# Altium footprint library ADAR7251WBCSZ.PcbLib: 3 footprints
Each footprint in its own frame and in the unit in brackets; x right, y up, seen from the top. Pads: shape width x height; smd on the part's side, far side on the other; paste and mask are expansions set on the pad; w line width, h text height; cw(c..) or ccw(c..) is an arc to the next point about the centre after c.
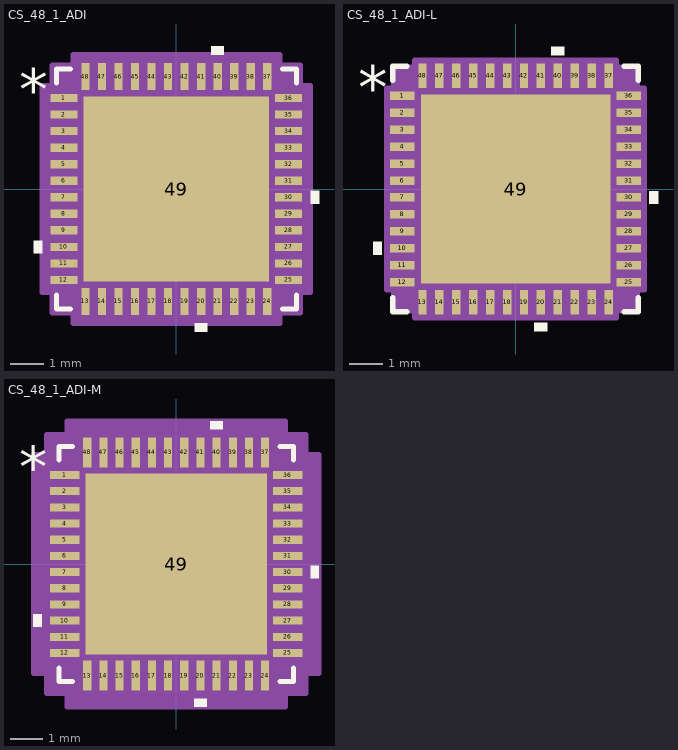
[diagram p0: the footprints below, top view; thin cyan lines are the x and y axes]

## CS_48_1_ADI [mm]
pads (49):
  rect 0.815x0.249 smd paste+0 mask+0: 1(-3.397,2.75) 2(-3.397,2.25) 3(-3.397,1.75) 4(-3.397,1.25) 5(-3.397,0.75) 6(-3.397,0.25) 7(-3.397,-0.25) 8(-3.397,-0.75) 9(-3.397,-1.25) 10(-3.397,-1.75) 11(-3.397,-2.25) 12(-3.397,-2.75) 25(3.397,-2.75) 26(3.397,-2.25) 27(3.397,-1.75) 28(3.397,-1.25) 29(3.397,-0.75) 30(3.397,-0.25) 31(3.397,0.25) 32(3.397,0.75) 33(3.397,1.25) 34(3.397,1.75) 35(3.397,2.25) 36(3.397,2.75)
  rect 0.249x0.815 smd paste+0 mask+0: 13(-2.75,-3.397) 14(-2.25,-3.397) 15(-1.75,-3.397) 16(-1.25,-3.397) 17(-0.75,-3.397) 18(-0.25,-3.397) 19(0.25,-3.397) 20(0.75,-3.397) 21(1.25,-3.397) 22(1.75,-3.397) 23(2.25,-3.397) 24(2.75,-3.397) 37(2.75,3.397) 38(2.25,3.397) 39(1.75,3.397) 40(1.25,3.397) 41(0.75,3.397) 42(0.25,3.397) 43(-0.25,3.397) 44(-0.75,3.397) 45(-1.25,3.397) 46(-1.75,3.397) 47(-2.25,3.397) 48(-2.75,3.397)
  rect 5.6x5.6 smd paste-2.8 mask+0: 49(0,0)
Top Overlay:
  region: 1.441,4.059 1.06,4.059 1.06,4.313 1.441,4.313
  region: 4.059,-0.059 4.313,-0.059 4.313,-0.44 4.059,-0.44
  region: 0.941,-4.059 0.56,-4.059 0.56,-4.313 0.941,-4.313
  region: -4.059,-1.559 -4.313,-1.559 -4.313,-1.94 -4.059,-1.94
  lines w0.152: -3.627,-3.207 -3.627,-3.627 -3.207,-3.627 ; -3.627,3.207 -3.627,3.627 -3.207,3.627 ; 3.207,-3.627 3.627,-3.627 3.627,-3.207 ; 3.207,3.627 3.627,3.627 3.627,3.207
  text ".Designator" at -3.492,-0.635 h1.27
  text "*" at -4.757,2.365 h1.27
Top Paste:
  region: 2.7,-1.5 1.5,-1.5 1.5,-2.7 2.7,-2.7
  region: 2.7,-0.1 1.5,-0.1 1.5,-1.3 2.7,-1.3
  region: 2.7,1.3 1.5,1.3 1.5,0.1 2.7,0.1
  region: 2.7,2.7 1.5,2.7 1.5,1.5 2.7,1.5
  region: 1.3,-1.5 0.1,-1.5 0.1,-2.7 1.3,-2.7
  region: 1.3,-0.1 0.1,-0.1 0.1,-1.3 1.3,-1.3
  region: 1.3,1.3 0.1,1.3 0.1,0.1 1.3,0.1
  region: 1.3,2.7 0.1,2.7 0.1,1.5 1.3,1.5
  region: -0.1,-1.5 -1.3,-1.5 -1.3,-2.7 -0.1,-2.7
  region: -0.1,-0.1 -1.3,-0.1 -1.3,-1.3 -0.1,-1.3
  region: -0.1,1.3 -1.3,1.3 -1.3,0.1 -0.1,0.1
  region: -0.1,2.7 -1.3,2.7 -1.3,1.5 -0.1,1.5
  region: -1.5,-1.5 -2.7,-1.5 -2.7,-2.7 -1.5,-2.7
  region: -1.5,-0.1 -2.7,-0.1 -2.7,-1.3 -1.5,-1.3
  region: -1.5,1.3 -2.7,1.3 -2.7,0.1 -1.5,0.1
  region: -1.5,2.7 -2.7,2.7 -2.7,1.5 -1.5,1.5
Mechanical 13:
  lines w0.025: -3.5,2.23 -2.23,3.5 ; -3.5,-3.5 -3.5,3.5 3.5,3.5 3.5,-3.5 -3.5,-3.5 ; -3.5,-2.9 -3.5,-2.6 -3.5,-2.9 ; -3.5,-2.4 -3.5,-2.1 -3.5,-2.4 ; -3.5,-1.9 -3.5,-1.6 -3.5,-1.9 ; -3.5,-1.4 -3.5,-1.1 -3.5,-1.4 ; -3.5,-0.9 -3.5,-0.6 -3.5,-0.9 ; -3.5,-0.4 -3.5,-0.1 -3.5,-0.4 ; -3.5,0.1 -3.5,0.4 -3.5,0.1 ; -3.5,0.6 -3.5,0.9 -3.5,0.6 ; -3.5,1.1 -3.5,1.4 -3.5,1.1 ; -3.5,1.6 -3.5,1.9 -3.5,1.6 ; -3.5,2.1 -3.5,2.4 -3.5,2.1 ; -3.5,2.6 -3.5,2.9 -3.5,2.6 ; -2.9,-3.5 -2.6,-3.5 -2.9,-3.5 ; -2.9,3.5 -2.6,3.5 -2.9,3.5 ; -2.4,-3.5 -2.1,-3.5 -2.4,-3.5 ; -2.4,3.5 -2.1,3.5 -2.4,3.5 ; -1.9,-3.5 -1.6,-3.5 -1.9,-3.5 ; -1.9,3.5 -1.6,3.5 -1.9,3.5 ; -1.4,-3.5 -1.1,-3.5 -1.4,-3.5 ; -1.4,3.5 -1.1,3.5 -1.4,3.5 ; -0.9,-3.5 -0.6,-3.5 -0.9,-3.5 ; -0.9,3.5 -0.6,3.5 -0.9,3.5 ; -0.4,-3.5 -0.1,-3.5 -0.4,-3.5 ; -0.4,3.5 -0.1,3.5 -0.4,3.5 ; 0.1,-3.5 0.4,-3.5 0.1,-3.5 ; 0.1,3.5 0.4,3.5 0.1,3.5 ; 0.6,-3.5 0.9,-3.5 0.6,-3.5 ; 0.6,3.5 0.9,3.5 0.6,3.5 ; 1.1,-3.5 1.4,-3.5 1.1,-3.5 ; 1.1,3.5 1.4,3.5 1.1,3.5 ; 1.6,-3.5 1.9,-3.5 1.6,-3.5 ; 1.6,3.5 1.9,3.5 1.6,3.5 ; 2.1,-3.5 2.4,-3.5 2.1,-3.5 ; 2.1,3.5 2.4,3.5 2.1,3.5 ; 2.6,-3.5 2.9,-3.5 2.6,-3.5 ; 2.6,3.5 2.9,3.5 2.6,3.5 ; 3.5,-2.9 3.5,-2.6 3.5,-2.9 ; 3.5,-2.4 3.5,-2.1 3.5,-2.4 ; 3.5,-1.9 3.5,-1.6 3.5,-1.9 ; 3.5,-1.4 3.5,-1.1 3.5,-1.4 ; 3.5,-0.9 3.5,-0.6 3.5,-0.9 ; 3.5,-0.4 3.5,-0.1 3.5,-0.4 ; 3.5,0.1 3.5,0.4 3.5,0.1 ; 3.5,0.6 3.5,0.9 3.5,0.6 ; 3.5,1.1 3.5,1.4 3.5,1.1 ; 3.5,1.6 3.5,1.9 3.5,1.6 ; 3.5,2.1 3.5,2.4 3.5,2.1 ; 3.5,2.6 3.5,2.9 3.5,2.6
  text "*" at -3.307,2.365 h1.27
  text ".Designator" at -3.492,-0.635 h1.27
Mechanical 15:
  region: -3.129,-3.754 -3.754,-3.754 -3.754,-3.129 -4.059,-3.129 -4.059,3.129 -3.754,3.129 -3.754,3.754 -3.129,3.754 -3.129,4.059 3.129,4.059 3.129,3.754 3.754,3.754 3.754,3.129 4.059,3.129 4.059,-3.129 3.754,-3.129 3.754,-3.754 3.129,-3.754 3.129,-4.059 -3.129,-4.059
  lines w0.152: -4.059,-3.129 -4.059,3.129 -3.754,3.129 -3.754,3.754 -3.129,3.754 -3.129,4.059 3.129,4.059 3.129,3.754 3.754,3.754 3.754,3.129 4.059,3.129 4.059,-3.129 3.754,-3.129 3.754,-3.754 3.129,-3.754 3.129,-4.059 -3.129,-4.059 -3.129,-3.754 -3.754,-3.754 -3.754,-3.129 -4.059,-3.129
3D body "CS_48_1_ADI.step": height 0.99, standoff 0, extent -3.5,-3.5 3.5,3.5
3D body "CS_48_1_ADI.step": height 0.99, standoff 0, extent -3.5,-3.5 3.5,3.5
3D body "CS_48_1_ADI.step": height 0.99, standoff 0, extent -3.5,-3.5 3.5,3.5
3D body "CS_48_1_ADI.step": height 0.99, standoff 0, extent -3.5,-3.5 3.5,3.5
3D body "CS_48_1_ADI.step": height 0.99, standoff 0, extent -3.5,-3.5 3.5,3.5
3D body "CS_48_1_ADI.step": height 0.99, standoff 0, extent -3.5,-3.5 3.5,3.5
3D body "CS_48_1_ADI.step": height 0.99, standoff 0, extent -3.5,-3.5 3.5,3.5
3D body "CS_48_1_ADI.step": height 0.99, standoff 0, extent -3.5,-3.5 3.5,3.5
3D body "CS_48_1_ADI.step": height 0.99, standoff 0, extent -3.5,-3.5 3.5,3.5
3D body "CS_48_1_ADI.step": height 0.99, standoff 0, extent -3.5,-3.5 3.5,3.5
3D body "CS_48_1_ADI.step": height 0.99, standoff 0, extent -3.5,-3.5 3.5,3.5

## CS_48_1_ADI-L [mm]
pads (49):
  rect 0.713x0.249 smd paste+0 mask+0: 1(-3.347,2.75) 2(-3.347,2.25) 3(-3.347,1.75) 4(-3.347,1.25) 5(-3.347,0.75) 6(-3.347,0.25) 7(-3.347,-0.25) 8(-3.347,-0.75) 9(-3.347,-1.25) 10(-3.347,-1.75) 11(-3.347,-2.25) 12(-3.347,-2.75) 25(3.347,-2.75) 26(3.347,-2.25) 27(3.347,-1.75) 28(3.347,-1.25) 29(3.347,-0.75) 30(3.347,-0.25) 31(3.347,0.25) 32(3.347,0.75) 33(3.347,1.25) 34(3.347,1.75) 35(3.347,2.25) 36(3.347,2.75)
  rect 0.249x0.713 smd paste+0 mask+0: 13(-2.75,-3.347) 14(-2.25,-3.347) 15(-1.75,-3.347) 16(-1.25,-3.347) 17(-0.75,-3.347) 18(-0.25,-3.347) 19(0.25,-3.347) 20(0.75,-3.347) 21(1.25,-3.347) 22(1.75,-3.347) 23(2.25,-3.347) 24(2.75,-3.347) 37(2.75,3.347) 38(2.25,3.347) 39(1.75,3.347) 40(1.25,3.347) 41(0.75,3.347) 42(0.25,3.347) 43(-0.25,3.347) 44(-0.75,3.347) 45(-1.25,3.347) 46(-1.75,3.347) 47(-2.25,3.347) 48(-2.75,3.347)
  rect 5.6x5.6 smd paste-2.8 mask+0: 49(0,0)
Top Overlay:
  region: -3.957,-1.559 -4.211,-1.559 -4.211,-1.94 -3.957,-1.94
  region: 0.941,-3.957 0.56,-3.957 0.56,-4.211 0.941,-4.211
  region: 3.957,-0.059 4.211,-0.059 4.211,-0.44 3.957,-0.44
  region: 1.441,3.957 1.06,3.957 1.06,4.211 1.441,4.211
  lines w0.152: -3.627,-3.207 -3.627,-3.627 -3.207,-3.627 ; -3.627,3.207 -3.627,3.627 -3.207,3.627 ; 3.207,-3.627 3.627,-3.627 3.627,-3.207 ; 3.207,3.627 3.627,3.627 3.627,3.207
  text "*" at -4.656,2.365 h1.27
  text ".Designator" at -3.492,-0.635 h1.27
Top Paste:
  region: -1.5,2.7 -2.7,2.7 -2.7,1.5 -1.5,1.5
  region: -1.5,1.3 -2.7,1.3 -2.7,0.1 -1.5,0.1
  region: -1.5,-0.1 -2.7,-0.1 -2.7,-1.3 -1.5,-1.3
  region: -1.5,-1.5 -2.7,-1.5 -2.7,-2.7 -1.5,-2.7
  region: -0.1,2.7 -1.3,2.7 -1.3,1.5 -0.1,1.5
  region: -0.1,1.3 -1.3,1.3 -1.3,0.1 -0.1,0.1
  region: -0.1,-0.1 -1.3,-0.1 -1.3,-1.3 -0.1,-1.3
  region: -0.1,-1.5 -1.3,-1.5 -1.3,-2.7 -0.1,-2.7
  region: 1.3,2.7 0.1,2.7 0.1,1.5 1.3,1.5
  region: 1.3,1.3 0.1,1.3 0.1,0.1 1.3,0.1
  region: 1.3,-0.1 0.1,-0.1 0.1,-1.3 1.3,-1.3
  region: 1.3,-1.5 0.1,-1.5 0.1,-2.7 1.3,-2.7
  region: 2.7,2.7 1.5,2.7 1.5,1.5 2.7,1.5
  region: 2.7,1.3 1.5,1.3 1.5,0.1 2.7,0.1
  region: 2.7,-0.1 1.5,-0.1 1.5,-1.3 2.7,-1.3
  region: 2.7,-1.5 1.5,-1.5 1.5,-2.7 2.7,-2.7
Mechanical 13:
  drawing of 201 lines, arcs and shapes, not listed
  text ".Designator" at -3.492,-0.635 h1.27
  text "*" at -3.307,2.365 h1.27
Mechanical 15:
  region: -2.976,-3.602 -3.602,-3.602 -3.602,-2.976 -3.805,-2.976 -3.805,2.976 -3.602,2.976 -3.602,3.602 -2.976,3.602 -2.976,3.805 2.976,3.805 2.976,3.602 3.602,3.602 3.602,2.976 3.805,2.976 3.805,-2.976 3.602,-2.976 3.602,-3.602 2.976,-3.602 2.976,-3.805 -2.976,-3.805
  lines w0.152: -3.805,-2.976 -3.602,-2.976 -3.602,-3.602 -2.976,-3.602 -2.976,-3.805 2.976,-3.805 2.976,-3.602 3.602,-3.602 3.602,-2.976 3.805,-2.976 3.805,2.976 3.602,2.976 3.602,3.602 2.976,3.602 2.976,3.805 -2.976,3.805 -2.976,3.602 -3.602,3.602 -3.602,2.976 -3.805,2.976 -3.805,-2.976
3D body "CS_48_1_ADI.step": height 0.99, standoff 0, extent -3.5,-3.5 3.5,3.5

## CS_48_1_ADI-M [mm]
pads (49):
  rect 0.916x0.249 smd paste+0 mask+0: 1(-3.448,2.75) 2(-3.448,2.25) 3(-3.448,1.75) 4(-3.448,1.25) 5(-3.448,0.75) 6(-3.448,0.25) 7(-3.448,-0.25) 8(-3.448,-0.75) 9(-3.448,-1.25) 10(-3.448,-1.75) 11(-3.448,-2.25) 12(-3.448,-2.75) 25(3.448,-2.75) 26(3.448,-2.25) 27(3.448,-1.75) 28(3.448,-1.25) 29(3.448,-0.75) 30(3.448,-0.25) 31(3.448,0.25) 32(3.448,0.75) 33(3.448,1.25) 34(3.448,1.75) 35(3.448,2.25) 36(3.448,2.75)
  rect 0.249x0.916 smd paste+0 mask+0: 13(-2.75,-3.448) 14(-2.25,-3.448) 15(-1.75,-3.448) 16(-1.25,-3.448) 17(-0.75,-3.448) 18(-0.25,-3.448) 19(0.25,-3.448) 20(0.75,-3.448) 21(1.25,-3.448) 22(1.75,-3.448) 23(2.25,-3.448) 24(2.75,-3.448) 37(2.75,3.448) 38(2.25,3.448) 39(1.75,3.448) 40(1.25,3.448) 41(0.75,3.448) 42(0.25,3.448) 43(-0.25,3.448) 44(-0.75,3.448) 45(-1.25,3.448) 46(-1.75,3.448) 47(-2.25,3.448) 48(-2.75,3.448)
  rect 5.6x5.6 smd paste-2.8 mask+0: 49(0,0)
Top Overlay:
  region: -4.16,-1.559 -4.414,-1.559 -4.414,-1.94 -4.16,-1.94
  region: 0.941,-4.16 0.56,-4.16 0.56,-4.414 0.941,-4.414
  region: 4.16,-0.059 4.414,-0.059 4.414,-0.44 4.16,-0.44
  region: 1.441,4.16 1.06,4.16 1.06,4.414 1.441,4.414
  lines w0.152: -3.627,-3.207 -3.627,-3.627 -3.207,-3.627 ; -3.627,3.207 -3.627,3.627 -3.207,3.627 ; 3.207,-3.627 3.627,-3.627 3.627,-3.207 ; 3.207,3.627 3.627,3.627 3.627,3.207
  text "*" at -4.859,2.365 h1.27
  text ".Designator" at -3.492,-0.635 h1.27
Top Paste:
  region: -1.5,2.7 -2.7,2.7 -2.7,1.5 -1.5,1.5
  region: -1.5,1.3 -2.7,1.3 -2.7,0.1 -1.5,0.1
  region: -1.5,-0.1 -2.7,-0.1 -2.7,-1.3 -1.5,-1.3
  region: -1.5,-1.5 -2.7,-1.5 -2.7,-2.7 -1.5,-2.7
  region: -0.1,2.7 -1.3,2.7 -1.3,1.5 -0.1,1.5
  region: -0.1,1.3 -1.3,1.3 -1.3,0.1 -0.1,0.1
  region: -0.1,-0.1 -1.3,-0.1 -1.3,-1.3 -0.1,-1.3
  region: -0.1,-1.5 -1.3,-1.5 -1.3,-2.7 -0.1,-2.7
  region: 1.3,2.7 0.1,2.7 0.1,1.5 1.3,1.5
  region: 1.3,1.3 0.1,1.3 0.1,0.1 1.3,0.1
  region: 1.3,-0.1 0.1,-0.1 0.1,-1.3 1.3,-1.3
  region: 1.3,-1.5 0.1,-1.5 0.1,-2.7 1.3,-2.7
  region: 2.7,2.7 1.5,2.7 1.5,1.5 2.7,1.5
  region: 2.7,1.3 1.5,1.3 1.5,0.1 2.7,0.1
  region: 2.7,-0.1 1.5,-0.1 1.5,-1.3 2.7,-1.3
  region: 2.7,-1.5 1.5,-1.5 1.5,-2.7 2.7,-2.7
Mechanical 13:
  drawing of 201 lines, arcs and shapes, not listed
  text ".Designator" at -3.492,-0.635 h1.27
  text "*" at -3.307,2.365 h1.27
Mechanical 15:
  region: -3.383,-4.008 -4.008,-4.008 -4.008,-3.383 -4.414,-3.383 -4.414,3.383 -4.008,3.383 -4.008,4.008 -3.383,4.008 -3.383,4.414 3.383,4.414 3.383,4.008 4.008,4.008 4.008,3.383 4.414,3.383 4.414,-3.383 4.008,-3.383 4.008,-4.008 3.383,-4.008 3.383,-4.414 -3.383,-4.414
  lines w0.152: -4.414,-3.383 -4.008,-3.383 -4.008,-4.008 -3.383,-4.008 -3.383,-4.414 3.383,-4.414 3.383,-4.008 4.008,-4.008 4.008,-3.383 4.414,-3.383 4.414,3.383 4.008,3.383 4.008,4.008 3.383,4.008 3.383,4.414 -3.383,4.414 -3.383,4.008 -4.008,4.008 -4.008,3.383 -4.414,3.383 -4.414,-3.383
3D body "CS_48_1_ADI.step": height 0.99, standoff 0, extent -3.5,-3.5 3.5,3.5